# Altium footprint library RESC1608X84N.PCBLIB: 1 footprints
Each footprint in its own frame and in the unit in brackets; x right, y up, seen from the top. Pads: shape width x height; smd on the part's side, far side on the other; paste and mask are expansions set on the pad; w line width, h text height; cw(c..) or ccw(c..) is an arc to the next point about the centre after c.
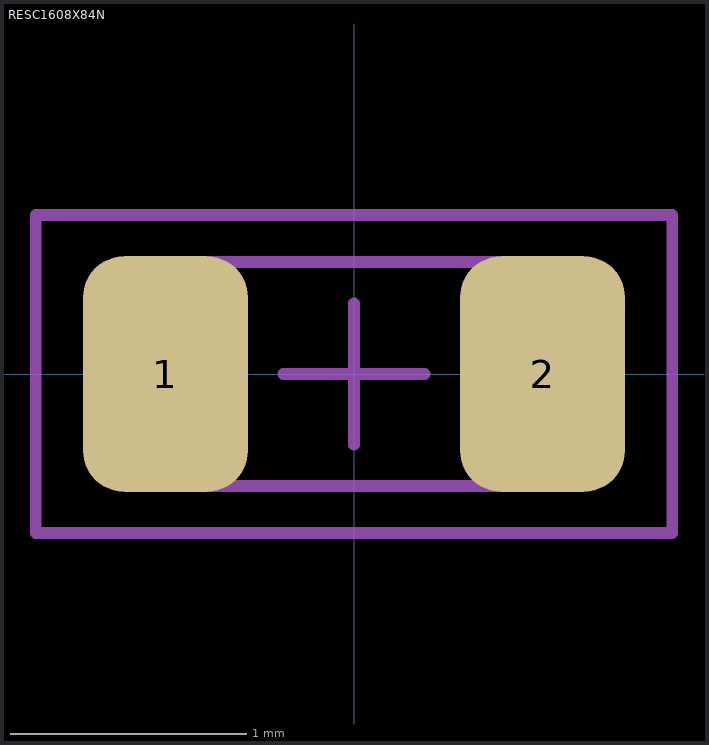
[diagram p0: the footprint, top view; thin cyan lines are the x and y axes]

## RESC1608X84N [mm] "RES 0603 (1608 metric) Nominal"
height 0.84
pads (2):
  rrect50% 0.7x1 smd paste+0: 1(-0.8,0) 2(0.8,0)
Top Component Outline:
  lines w0.001: -0.875,-0.475 -0.875,0.475 ; -0.875,-0.475 0.875,-0.475 ; -0.875,-0.475 -0.875,0.475 ; -0.875,-0.475 0.875,-0.475 ; -0.875,0.475 0.875,0.475 ; -0.875,0.475 0.875,0.475 ; 0.875,-0.475 0.875,0.475 ; 0.875,-0.475 0.875,0.475
  lines w0.05: -0.875,-0.475 0.875,-0.475 0.875,0.475 -0.875,0.475 -0.875,-0.475
Top Courtyard:
  lines w0.05: -0.3,0 0.3,0 ; 0,-0.3 0,0.3 ; -1.35,-0.675 -1.35,0.675 1.35,0.675 1.35,-0.675 -1.35,-0.675
3D body: height 0.84, standoff 0.05, extent 0.525,-0.475 0.875,0.475
3D body: height 0.84, standoff 0.05, extent -0.875,-0.475 -0.525,0.475
3D body: height 0.84, standoff 0.05, extent -0.525,-0.475 0.525,0.475